# Altium schematic symbol library GeneralConnectors.SchLib: 35 symbols
Pins are listed as number, name and electrical type; pins without a type are passive.

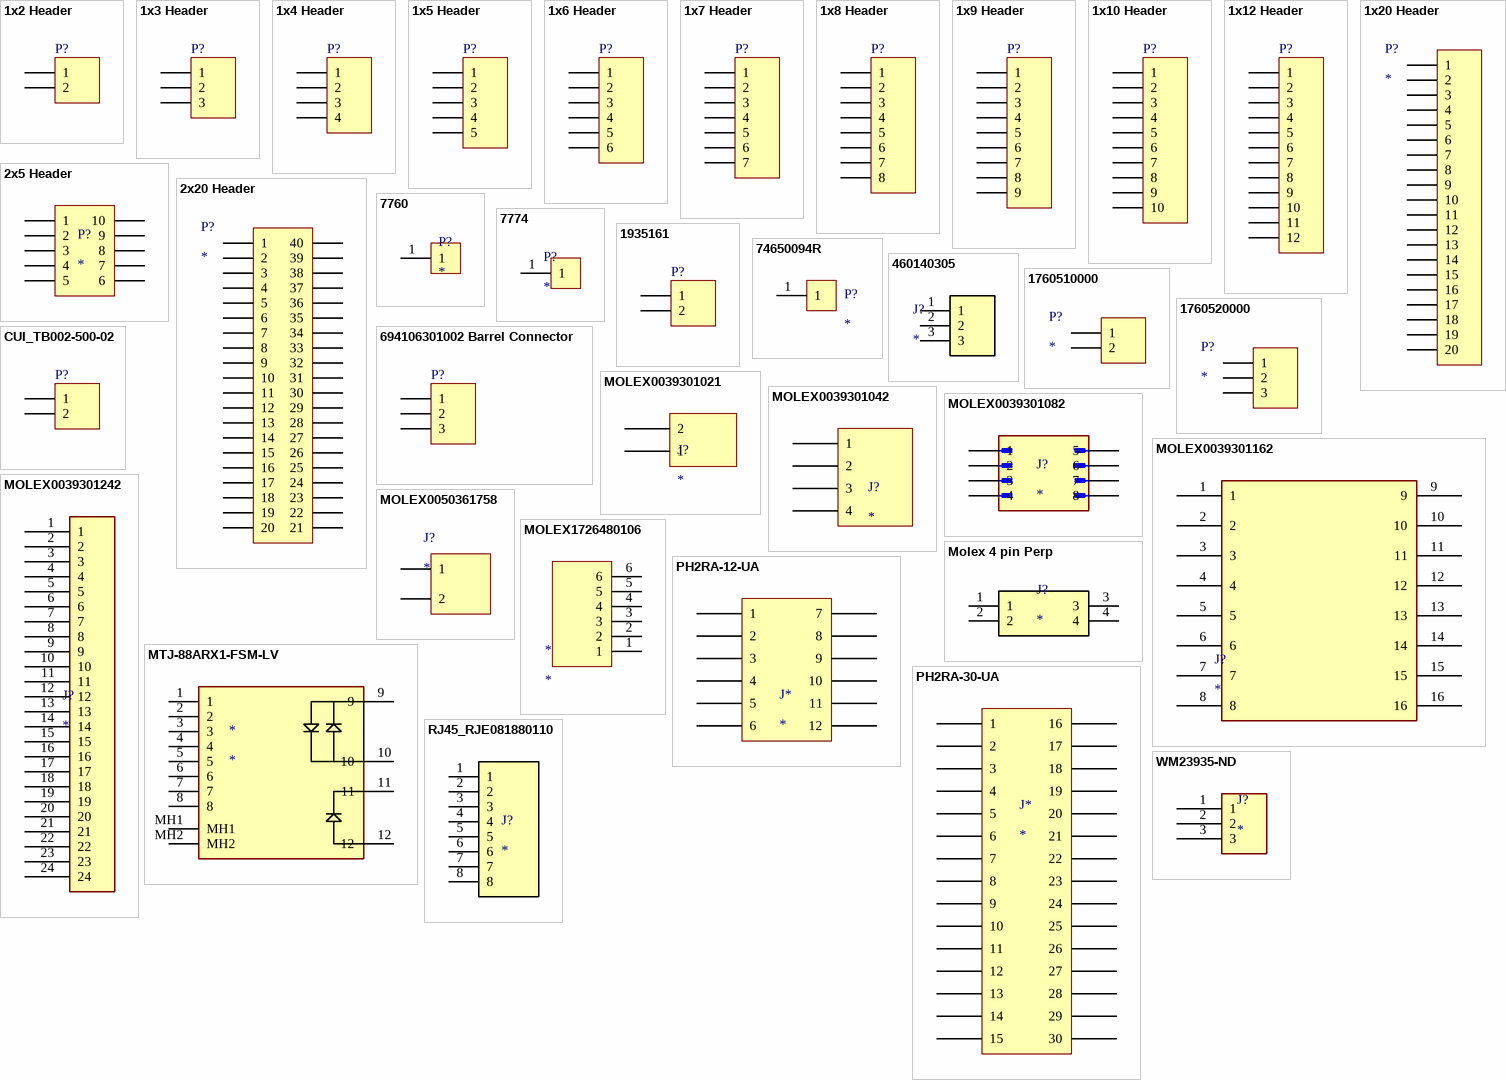
[diagram p0: symbols 1x2 Header to WM23935-ND]

## 1x2 Header
designator P?
1x2 Pin Header
signal-integrity model Connector
footprint HDR1X2 (Connector; Header; 2 Position)
footprint B2B-XH (JST 2-pin Header)
footprint S2B-XH (Horizontal 2-Pin JST)
pins: 1, 2

## 1x3 Header
designator P?
1x3 Pin Header
signal-integrity model Connector
footprint HDR1X3 (Connector; Header; 3 Position)
footprint B3B-XH (JST 3-pin connector)
pins: 1, 2, 3

## 1x4 Header
designator P?
1x4 Pin Header
signal-integrity model Connector
footprint HDR1X4 (Connector; Header; 4 Position)
footprint B4B-XH (JST 4-Pin)
pins: 1, 2, 3, 4

## 1x5 Header
designator P?
1x5 Pin Header
signal-integrity model Connector
footprint HDR1X5 (Connector; Header; 5 Position)
pins: 1, 2, 3, 4, 5

## 1x6 Header
designator P?
1x6 Pin Header
signal-integrity model Connector
footprint HDR1X6 (Connector; Header; 6 Position)
pins: 1, 2, 3, 4, 5, 6

## 1x7 Header
designator P?
1x7 Pin Header
signal-integrity model Connector
footprint HDR1X7 (Connector; Header; 7 Position)
pins: 1, 2, 3, 4, 5, 6, 7

## 1x8 Header
designator P?
1x8 Pin Header
signal-integrity model Connector
footprint HDR1X8 (Connector; Header; 8 Position)
pins: 1, 2, 3, 4, 5, 6, 7, 8

## 1x9 Header
designator P?
1x9 Pin Header
signal-integrity model Connector
footprint HDR1X9 (Connector; Header; 9 Position)
pins: 1, 2, 3, 4, 5, 6, 7, 8, 9

## 1x10 Header
designator P?
1x10 Pin Header
signal-integrity model Connector
footprint HDR1X10 (Connector; Header; 10 Position)
pins: 1, 2, 3, 4, 5, 6, 7, 8, 9, 10

## 1x12 Header
designator P?
1x12 Pin Header
signal-integrity model Connector
footprint HDR1X12 (Connector; Header; 12 Position)
pins: 1, 2, 3, 4, 5, 6, 7, 8, 9, 10, 11, 12

## 1x20 Header
designator P?
1x20 Pin Header
footprint HDR1X20
pins: 1, 2, 3, 4, 5, 6, 7, 8, 9, 10, 11, 12, 13, 14, 15, 16, 17, 18, 19, 20

## 2x5 Header
designator P?
2x5 Pin Header
footprint HDR2x5
pins: 1, 2, 3, 4, 5, 6, 7, 8, 9, 10

## 2x20 Header
designator P?
2x20 Pin Header
footprint HDR2X20 (Connector; Header; 40 Position)
pins: 1, 2, 3, 4, 5, 6, 7, 8, 9, 10, 11, 12, 13, 14, 15, 16, 17, 18, 19, 20, 21, 22, 23, 24, 25, 26, 27, 28, 29, 30, 31, 32, 33, 34, 35, 36, 37, 38, 39, 40

## 7760
designator P?
Manufacturer: Keystone; Manufacturer Part Number: 7760; Supplier: Digikey; Supplier Part Number: 36-7760-ND
footprint 7760 (Screw-On Connector)
pins: 1

## 7774
designator P?
Manufacturer: Keystone; Manufacturer Part Number: 7774; Supplier: Digikey; Supplier Part Number: 36-7774-ND
footprint 7774 (Screw Connector)
pins: 1

## 1935161
designator P?
1x2 Screw Terminal Block; Manufacturer: CUI Devices; Manufacturer Part Number: TB002-500-02BE; Supplier: Digikey; Supplier Part Number: 102-6145-ND
footprint 1935161 (Phoenix Contact 1x2 Screw Terminal Block)
pins: 1, 2

## 74650094R
designator P?
Manufacturer Part Number: 74650094R; Manufacturer: Wurth; Supplier Part Number: 732-10884-1-ND; Supplier: Digikey
footprint 74650094R (M4 High Current Terminal Block)
pins: 1

## 460140305
designator J?
MP: 460140305; Value: *; Price: None; Package: None; Availability: Unavailable
footprint MOLEX_460140305_3pin header
pins: 1, 2, 3

## 1760510000
designator P?
1x2 Screw Terminal Block; Manufacturer Part Number: 1760510000; Manufacturer: Weidmüller; Supplier Part Number: 281-1882-ND; Supplier: Digikey; ComponentLink1Description: Datasheet; ComponentLink1URL: https://media.digikey.com/pdf/Data%20Sheets/Weidmuller%20PDFs/1760510000.pdf
footprint 1760510000 (5.08mm pitch screw connector)
pins: 1, 2

## 1760520000
designator P?
1x3 Screw Terminal Block; Manufacturer Part Number: 1760520000; Manufacturer: Weidmüller; Supplier: Digikey; Supplier Part Number: 281-1883-ND; ComponentLink1Description: Datasheet; ComponentLink1URL: https://media.digikey.com/pdf/Data%20Sheets/Weidmuller%20PDFs/1760520000.pdf
footprint 1760520000 (5.08mm pitch screw connector)
pins: 1, 2, 3

## 694106301002 Barrel Connector
designator P?
CONN PWR JACK 2.1X5.5MM SOLDER; Manufacturer: Würth Elektronik; Manufacturer Part Number: 694106301002; Supplier: Digikey; Supplier Part Number: 732-5930-ND; Datasheet: https://www.we-online.com/katalog/datasheet/6941xx301002.pdf
signal-integrity model Connector
footprint 694106301002 (Power Barrel Connector Jack 2.10mm ID (0.083"), 5.50mm OD (0.217") Through Hole, Right Angle)
pins: 1, 2, 3

## CUI_TB002-500-02
designator P?
1x2 Screw Terminal Block; Manufacturer: CUI Devices; Manufacturer Part Number: TB002-500-02BE; Supplier: Digikey; Supplier Part Number: 102-6145-ND
signal-integrity model Connector
footprint CUI_TB002-500-02 (1x2 Screw Terminal Block)
pins: 1, 2

## MOLEX0039301021
designator J?
Connector Header Through Hole, Right Angle 2 pin 0.165" (4.20mm)
footprint MOLEX0039301021 (2 connector header through hole right angle molex)
pins: 1, 2

## MOLEX0039301042
designator J?
Connector Header Through Hole, Right Angle 4 position 0.165" (4.20mm); Manufacturer: Molex; Manufacturer Part Number: 0039301042; Supplier: Digikey; Supplier Part Number: WM21364-ND; ComponentLink1Description: Datasheet; ComponentLink1URL: https://www.molex.com/pdm_docs/sd/039301042_sd.pdf
footprint MOLEX0039301042 (CONN HEADER R/A 4POS 4.2MM)
pins: 1, 2, 3, 4

## MOLEX0039301082
designator J?
Connector Header Through Hole, Right Angle 8 position 0.165" (4.20mm); Manufacturer: Molex; Manufacturer Part Number: 0039301082; Supplier: DigiKey; Supplier Part Number: WM21366-ND; ComponentLink1Description: Datasheet; ComponentLink1URL: https://www.molex.com/pdm_docs/sd/039301082_sd.pdf
footprint MOLEX0039301082 (CONN HEADER R/A 8POS 4.2MM)
pins: 1, 2, 3, 4, 5, 6, 7, 8

## MOLEX0039301162
designator J?
Connector Header Through Hole, Right Angle 16 position 0.165" (4.20mm); Manufacturer: Molex; Manufacturer Part Number: 0039301082; Supplier: DigiKey; Supplier Part Number: WM21366-ND; ComponentLink1Description: Datasheet; ComponentLink1URL: https://www.molex.com/pdm_docs/sd/039301082_sd.pdf
footprint MOLEX0039301162 (CONN HEADER R/A 16POS 4.2MM)
pins: 1, 2, 3, 4, 5, 6, 7, 8, 9, 10, 11, 12, 13, 14, 15, 16

## MOLEX0039301242
designator J?
Connector Header Through Hole, Right Angle 24 position 0.165" (4.20mm); Manufacturer: Molex; Manufacturer Part Number: 0039301082; Supplier: DigiKey; Supplier Part Number: WM21366-ND; ComponentLink1Description: Datasheet; ComponentLink1URL: https://www.molex.com/pdm_docs/sd/039301082_sd.pdf
footprint MOLEX0039301242 (CONN HEADER R/A 24POS 4.2MM)
pins: 1, 2, 3, 4, 5, 6, 7, 8, 9, 10, 11, 12, 13, 14, 15, 16, 17, 18, 19, 20, 21, 22, 23, 24

## MOLEX0050361758
designator J?
Connector Header Through Hole, Right Angle 2 position -; Manufacturer: Molex; Manufacturer Part Number: 0050361758; Supplier: DigiKey; ComponentLink1Description: Datasheet; ComponentLink1URL: https://www.molex.com/pdm_docs/ps/PS-5556-001.pdf; Supplier Part Number: 0050361758-ND
footprint Molex0050361758
pins: 1, 2

## MOLEX1726480106
designator *
footprint 1726480106
pins: 1, 2, 3, 4, 5, 6

## Molex 4 pin Perp
designator J?
Connector Header Through Hole 4 position 0.165in (4.20mm); MP: 462071004; Price: None; Availability: Unavailable; Value: *; Package: None
footprint MOLEX_462071004
pins: 1, 2, 3, 4

## MTJ-88ARX1-FSM-LV
designator *
RJ45 Connector
footprint MTJ-88ARX1-FSM-LV (RJ45 Connector)
pins: 1, 2, 3, 4, 5, 6, 7, 8, 9, 10, 11, 12, MH1, MH2

## PH2RA-12-UA
designator J*
Connector Header Through Hole, Right Angle 12 position 0.100" (2.54mm); Manufacturer: Adam Tech; Manufacturer Part Number: PH2RA-30-UA; Supplier: DigiKey; Supplier Part Number: 2057-PH2RA-30-UA-ND; ComponentLink1Description: Datasheet; ComponentLink1URL: https://app.adam-tech.com/products/download/data_sheet/200508/ph2ra-xx-ua-data-sheet.pdf
footprint PH2RA-12-UA (CONN HEADER R/A 12POS 2.54MM)
pins: 1, 2, 3, 4, 5, 6, 7, 8, 9, 10, 11, 12

## PH2RA-30-UA
designator J*
Connector Header Through Hole, Right Angle 30 position 0.100" (2.54mm); Manufacturer: Adam Tech; Manufacturer Part Number: PH2RA-30-UA; Supplier: DigiKey; Supplier Part Number: 2057-PH2RA-30-UA-ND; ComponentLink1Description: Datasheet; ComponentLink1URL: https://app.adam-tech.com/products/download/data_sheet/200508/ph2ra-xx-ua-data-sheet.pdf
footprint PH2RA-30-UA (CONN HEADER R/A 30POS 2.54MM)
pins: 1, 2, 3, 4, 5, 6, 7, 8, 9, 10, 11, 12, 13, 14, 15, 16, 17, 18, 19, 20, 21, 22, 23, 24, 25, 26, 27, 28, 29, 30

## RJ45_RJE081880110
designator J?
RJ45 Modular Jack - Verticals, Input Output Connectors 8P8C, Without Shield.; MF: Amphenol ICC (Commercial Products); MP: RJE081880110; SnapEDA_Link: https://www.snapeda.com/parts/RJE081880110/Amphenol/view-part/?ref=snap; Value: *; Purchase-URL: https://pricing.snapeda.com/search/part/RJE081880110/?ref=eda; Check_prices: https://www.snapeda.com/parts/RJE081880110/Amphenol/view-part/?ref=eda; Availability: In Stock; Price: None; Package: None
footprint RJ45_RJE081880110
pins: 1, 2, 3, 4, 5, 6, 7, 8

## WM23935-ND
designator J?
Conn Power HDR 3 POS 4.2mm Solder RA Thru-Hole 3 Terminal 1 Port Mini-Fit Jr Bag; MP: 39303037; MF: Molex; Package: None; Purchase-URL: https://pricing.snapeda.com/search/part/39303037/?ref=eda; Check_prices: https://www.snapeda.com/parts/39303037/Molex/view-part/?ref=eda; Value: *; SnapEDA_Link: https://www.snapeda.com/parts/39303037/Molex/view-part/?ref=snap; ComponentLink1Description: Manufacturer name; ComponentLink1URL: Molex; ComponentLink2Description: Manufacturer part number; ComponentLink2URL: 0039303037; ComponentLink3Description: Supplier name; ComponentLink3URL: Digikey; ComponentLink4Description: Supplier part number; ComponentLink4URL: WM23935-ND
footprint MOLEX_39303037 (Connector Header Through Hole, Right Angle 3 position 0.165" (4.20mm))
pins: 1, 2, 3